# EAGLE library part 750316170 (library WE-IBTI)
WE-IBTI Isolated Buck Transformers Characteristics Flybuck™ topology Operating Temp: -40°C to +125°C Excellent leakage inductance and interwinding capacitance performance Applications Industrial Programmable Logic Controllers (PLCs) Building automation and process control Isolated interface power: RS-422, RS-485, CAN, I2C, LAN Motor drive control, inverters and industrial automation Isolated low power drivers & regulators, smart e-meters Bias power supplies for gate drives and op-amps <https://www.we-online.com/components/media/o790826v209%20family-MID-IBTI.1673.jpg> Details see: www.we-online.com/en/components/products/WE-IBTI <www.we-online.com/catalog/WE-IBTI/?utm_source=eagle_model&utm_medium=description_link&utm_campaign=eisos_eagle> Created by Ella Wu 2024-06-07 2024 (C) Wurth Elektronik
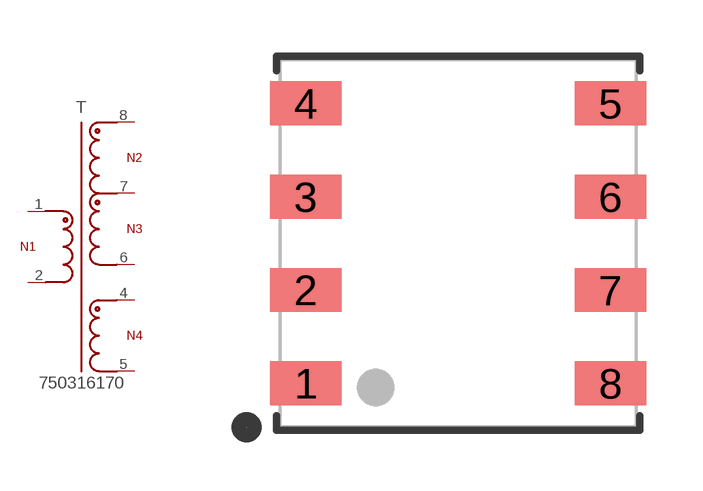
[diagram p2: symbol with the pads of WE-IBTI_EP7_L9.78W9.5H10.54; footprint WE-IBTI_EP7_L9.78W9.5H10.54]

Designator prefix T

## 750316170 (DATASHEET-URL: https://www.we-online.com/redexpert/spec/750316170?ae; FSWITCH: 400kHz; HEIGHT: 10.54mm; IOUT1: 0.01A; IOUT2: 0.01A; IOUT3: 0.1A; ISAT: 7A; L: 2.7uH; LENGTH: 9.78mm; LS: 500nH; MOUNT: SMT; N: 1:8:8:3; PART-NUMBER: 750316170; SIZE: EP7; VALUE: 750316170; VBUCK: 2.17V; VIN: 3.5 - 5.5 V (DC); VOUT1: 13.5V; VOUT2: -13.5V; VOUT3: 5V; VT: 1875V(AC); WIDTH: 9.5mm)  [WE-IBTI_EP7_L9.78W9.5H10.54]
1  1  pas
2  2  pas
4  4  pas
5  5  pas
6  6  pas
7  7  pas
8  8  pas

## Footprint WE-IBTI_EP7_L9.78W9.5H10.54 (pad centres in mm)
WE-IBTI Isolated Buck Transformers Size: EP7,SMT,8pins LXWXH=9.78X9.5X10.54mm
smd 1.91 x 1.17: 1 -4.065,-3.735; 2 -4.065,-1.245; 3 -4.065,1.245; 4 -4.065,3.735; 5 4.065,3.735; 6 4.065,1.245; 7 4.065,-1.245; 8 4.065,-3.735